# Altium footprint library SWT-34.PcbLib: 1 footprints
Each footprint in its own frame and in the unit in brackets; x right, y up, seen from the top. Pads: shape width x height; smd on the part's side, far side on the other; paste and mask are expansions set on the pad; w line width, h text height; cw(c..) or ccw(c..) is an arc to the next point about the centre after c.
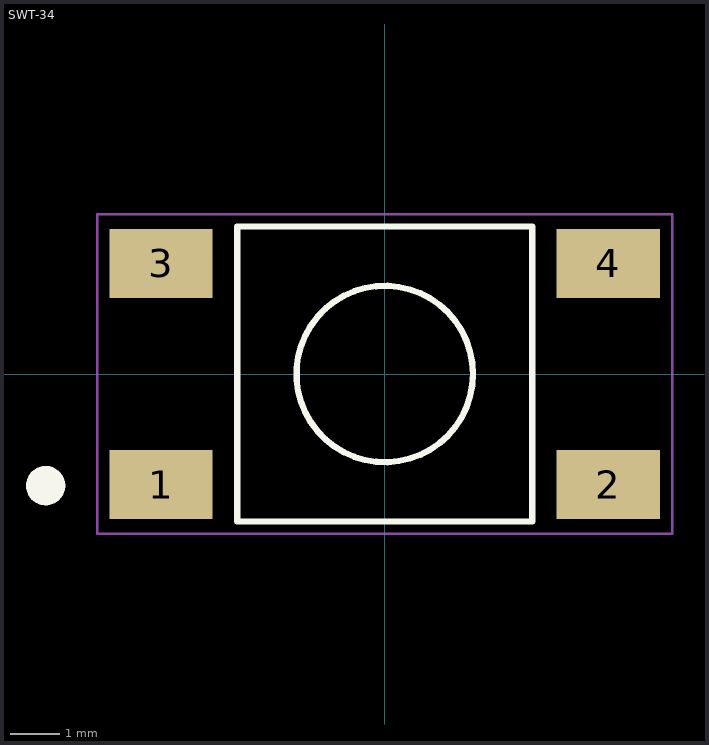
[diagram p0: the footprint, top view; thin cyan lines are the x and y axes]

## SWT-34 [mm]
pads (4):
  rect 2.1x1.4 smd: 1(-4.55,-2.25) 2(4.55,-2.25) 3(-4.55,2.25) 4(4.55,2.25)
Top Overlay:
  circle w0.4: c-6.9,-2.272 r0.2
  circle w0.127: c0,0 r1.796
  lines w0.127: -3,-3 3,-3 3,3 -3,3 -3,-3
Mechanical 16:
  lines w0.05: -5.85,-3.25 -5.85,3.25 5.85,3.25 5.85,-3.25 -5.85,-3.25
3D body "FSM6JSMATR.STEP": height 7.26, standoff 0, extent -5,-3 5,3